# EAGLE library part 7PIN (library con-yaala)
MKDS 1/ 7-3,5 Printklemme Nennstrom: 10 A Bemessungsspannung: 160 V Raster: 3,5 mm Polzahl: 7 Montageart: Löten Anschlussart: Schraubanschluss Anschlussrichtung vom Leiter zur Platine: 0° Source: http://eshop.phoenixcontact.com .. 1751293.pdf
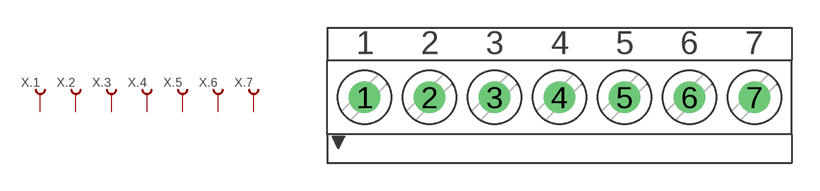
[diagram p0: symbol with the pads of 7PIN_SCHRAUBKLEMME_3,5MM; footprint 7PIN_SCHRAUBKLEMME_3,5MM]

Designator prefix X; gates .1=KONTAKT .2=KONTAKT .3=KONTAKT .4=KONTAKT .5=KONTAKT .6=KONTAKT .7=KONTAKT

## 7PIN_SCHRAUBKLEMME_3,5MM (OC_FARNELL: unknown; OC_NEWARK: unknown)  [7PIN_SCHRAUBKLEMME_3,5MM]
1  .1:1  pas
2  .2:1  pas
3  .3:1  pas
4  .4:1  pas
5  .5:1  pas
6  .6:1  pas
7  .7:1  pas

## Footprint 7PIN_SCHRAUBKLEMME_3,5MM (pad centres in mm)
MKDS 1/ 7-3,5 Printklemme Nennstrom: 10 A Bemessungsspannung: 160 V Raster: 3,5 mm Polzahl: 7 Montageart: Löten Anschlussart: Schraubanschluss Anschlussrichtung vom Leiter zur Platine: 0° Source: http://eshop.phoenixcontact.com .. 1751293.pdf
drill 1.1 pad 1.7: 1 0,0; 2 3.5,0; 3 7,0; 4 10.5,0; 5 14,0; 6 17.5,0; 7 21,0